# EAGLE library part 1843839 (library con-phoenix-350)
TERM BLOCK HDR 6POS 90DEG 3.5MM
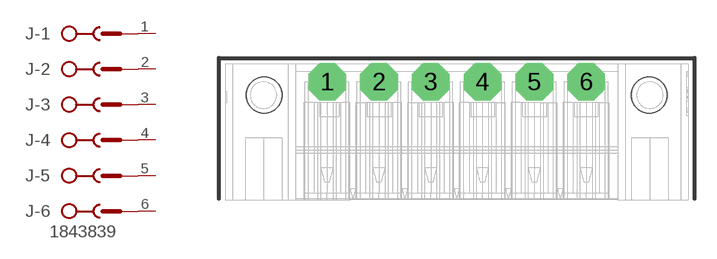
[diagram p19: symbol with the pads of 1843839; footprint 1843839]

Designator prefix J; gates -6=SK+V -1=SK -2=SK -3=SK -4=SK -5=SK

## 1843839  [1843839]
1  -1:SK  pas
2  -2:SK  pas
3  -3:SK  pas
4  -4:SK  pas
5  -5:SK  pas
6  -6:SK  pas

## Footprint 1843839 (pad centres in mm)
COMBICON MC 3.5
drill 1.2 pad 2.54 octagon: 1 -8.75,8; 2 -5.25,8; 3 -1.75,8; 4 1.75,8; 5 5.25,8; 6 8.75,8
hole 2.4 at -13,7.1
hole 2.4 at 13,7.1